# EAGLE library part LM2765 (library bschulz)
LM2765 - Switched-Capacitor Voltage Converter Characteristics: Vin: 1.8V ~ 5.5V Vout: 2Vin Output Current: 20 mA Quiescent Current: 130μA (typ) Operating Temperature: -40°C to 85°C Digikey: LM2765M6X/NOPBCT-ND <https://www.digikey.com/product-detail/en/texas-instruments/LM2765M6X-NOPB/LM2765M6X-NOPBCT-ND/2469094>
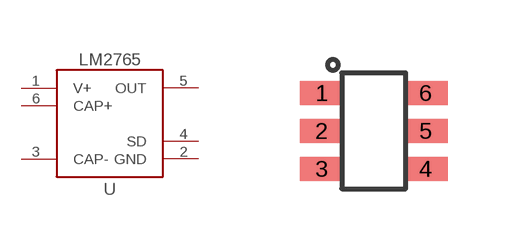
[diagram p119: symbol with the pads of DBV0006A; footprint DBV0006A]

Designator prefix U

## LM2765 (DIGIKEY: LM2765M6X/NOPBCT-ND; MF: TI; MPN: LM2765M6X/NOPB)  [DBV0006A]
1  V+  pwr
2  GND  pwr
3  CAP-  pwr
4  SD  in
5  OUT  pwr
6  CAP+  pwr

## Footprint DBV0006A (pad centres in mm)
SOT-23-6 Alternate Ref datasheet <http://www.ti.com/lit/ds/symlink/lm2765.pdf>
smd 1.1 x 0.6: 1 -1.3,0.95; 2 -1.3,0; 3 -1.3,-0.95; 4 1.3,-0.95; 5 1.3,0; 6 1.3,0.95